# EAGLE library part 74HCT540D (library NXP_By_element14_Batch_1)
Octal buffer/line driver
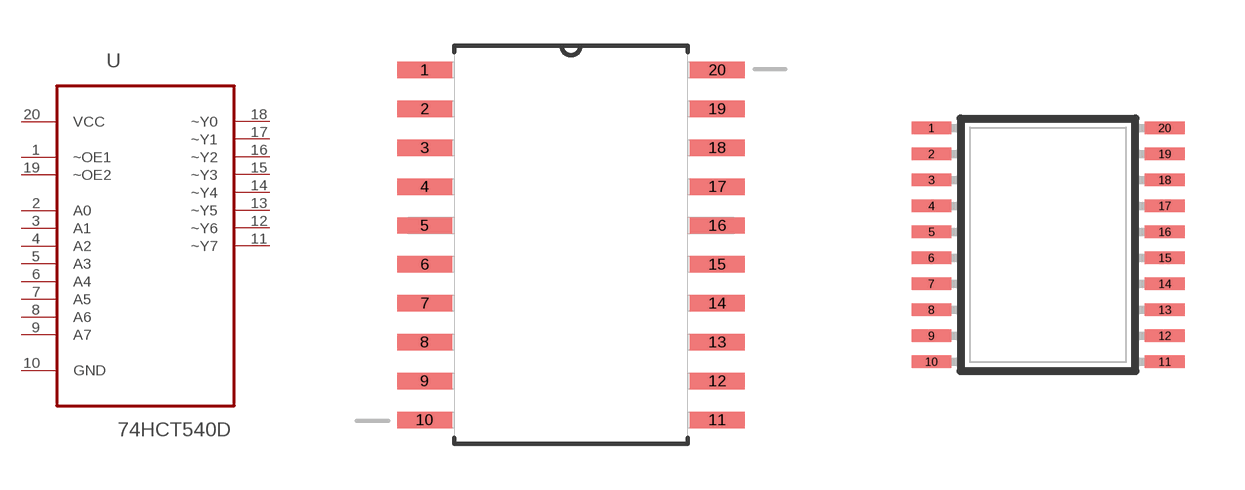
[diagram p206: symbol with the pads of SOIC127P1032X265-20N; footprints SOIC127P1032X265-20N, TSSOP20]

Designator prefix U

## 74HCT540D (MPN: 74HCT540D; OC_FARNELL: 1085318; OC_NEWARK: 99K0562; P1I: o; PACKAGE: SOIC-20; SUPPLIER: NXP)  [SOIC127P1032X265-20N]
1  ~OE1  in
2  A0  in
3  A1  in
4  A2  in
5  A3  in
6  A4  in
7  A5  in
8  A6  in
9  A7  in
10  GND  pas
11  ~Y7  out
12  ~Y6  out
13  ~Y5  out
14  ~Y4  out
15  ~Y3  out
16  ~Y2  out
17  ~Y1  out
18  ~Y0  out
19  ~OE2  in
20  VCC  pwr

## 74HCT540D74HCT540D-PWR (P1I: o)  [TSSOP20]
Pads as for SOIC127P1032X265-20N

## Footprint SOIC127P1032X265-20N (pad centres in mm)
smd 1.803 x 0.533: 1 -4.775,5.715; 2 -4.775,4.445; 3 -4.775,3.175; 4 -4.775,1.905; 5 -4.775,0.635; 6 -4.775,-0.635; 7 -4.775,-1.905; 8 -4.775,-3.175; 9 -4.775,-4.445; 10 -4.775,-5.715; 11 4.775,-5.715; 12 4.775,-4.445; 13 4.775,-3.175; 14 4.775,-1.905; 15 4.775,-0.635; 16 4.775,0.635; 17 4.775,1.905; 18 4.775,3.175; 19 4.775,4.445; 20 4.775,5.715

## Footprint TSSOP20 (pad centres in mm)
smd 0.991 x 0.305: 1 -2.918,2.925; 2 -2.918,2.275; 3 -2.918,1.625; 4 -2.918,0.975; 5 -2.918,0.325; 6 -2.918,-0.325; 7 -2.918,-0.975; 8 -2.918,-1.625; 9 -2.918,-2.275; 10 -2.918,-2.925; 11 2.918,-2.925; 12 2.918,-2.275; 13 2.918,-1.625; 14 2.918,-0.975; 15 2.918,-0.325; 16 2.918,0.325; 17 2.918,0.975; 18 2.918,1.625; 19 2.918,2.275; 20 2.918,2.925